# EAGLE library part LPC1343_QFN (library microbuilder)
LPC1343 72 MHz 32-bit ARM Cortex-M3 based microcontroller featuring a high level of integration and low power consumption. 32 kB Flash, 8 kB SRAM, USB Device MarcVl - Datasheet available on www.nxp.com
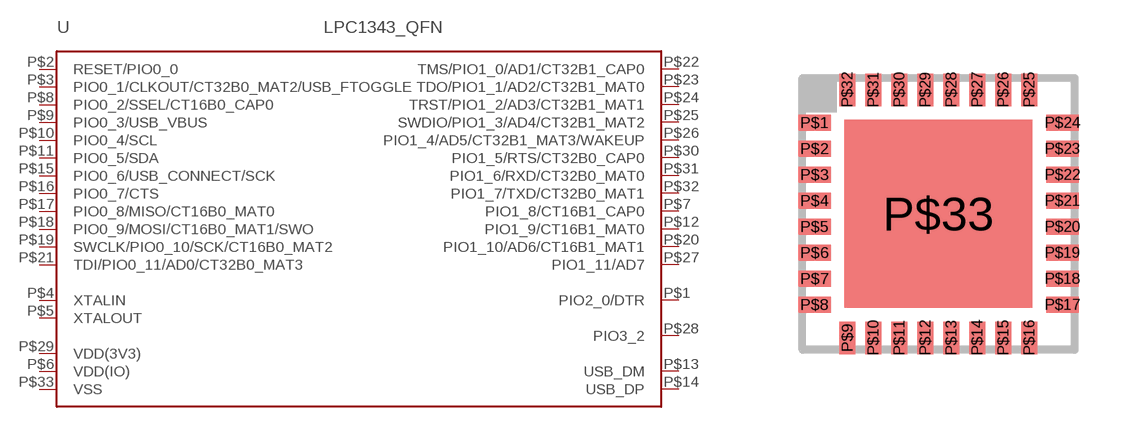
[diagram p30: symbol with the pads of HVQFN33-7X7; footprint HVQFN33-7X7]

Designator prefix U

## LPC1343_QFN  [HVQFN33-7X7]
P$1  PIO2_0/DTR
P$2  RESET/PIO0_0
P$3  PIO0_1/CLKOUT/CT32B0_MAT2/USB_FTOGGLE
P$4  XTALIN  in
P$5  XTALOUT  out
P$6  VDD(IO)  pwr
P$7  PIO1_8/CT16B1_CAP0
P$8  PIO0_2/SSEL/CT16B0_CAP0
P$9  PIO0_3/USB_VBUS
P$10  PIO0_4/SCL
P$11  PIO0_5/SDA
P$12  PIO1_9/CT16B1_MAT0
P$13  USB_DM
P$14  USB_DP
P$15  PIO0_6/USB_CONNECT/SCK
P$16  PIO0_7/CTS
P$17  PIO0_8/MISO/CT16B0_MAT0
P$18  PIO0_9/MOSI/CT16B0_MAT1/SWO
P$19  SWCLK/PIO0_10/SCK/CT16B0_MAT2
P$20  PIO1_10/AD6/CT16B1_MAT1
P$21  TDI/PIO0_11/AD0/CT32B0_MAT3
P$22  TMS/PIO1_0/AD1/CT32B1_CAP0
P$23  TDO/PIO1_1/AD2/CT32B1_MAT0
P$24  TRST/PIO1_2/AD3/CT32B1_MAT1
P$25  SWDIO/PIO1_3/AD4/CT32B1_MAT2
P$26  PIO1_4/AD5/CT32B1_MAT3/WAKEUP
P$27  PIO1_11/AD7
P$28  PIO3_2
P$29  VDD(3V3)  pwr
P$30  PIO1_5/RTS/CT32B0_CAP0
P$31  PIO1_6/RXD/CT32B0_MAT0
P$32  PIO1_7/TXD/CT32B0_MAT1
P$33  VSS  pwr

## Footprint HVQFN33-7X7 (pad centres in mm)
HVQFN33 Plastic thermal enhanced very thin quad flat package; 33 terminals; body 7x7x0.85 mm;
smd 0.813 x 0.406: P$1 -3.1,2.275; P$2 -3.1,1.625; P$3 -3.1,0.975; P$4 -3.1,0.325; P$5 -3.1,-0.325; P$6 -3.1,-0.975; P$7 -3.1,-1.625; P$8 -3.1,-2.275; P$17 3.1,-2.275; P$18 3.1,-1.625; P$19 3.1,-0.975; P$20 3.1,-0.325; P$21 3.1,0.325; P$22 3.1,0.975; P$23 3.1,1.625; P$24 3.1,2.275
smd 0.406 x 0.813: P$9 -2.275,-3.1; P$10 -1.625,-3.1; P$11 -0.975,-3.1; P$12 -0.325,-3.1; P$13 0.325,-3.1; P$14 0.975,-3.1; P$15 1.625,-3.1; P$16 2.275,-3.1; P$25 2.275,3.1; P$26 1.625,3.1; P$27 0.975,3.1; P$28 0.325,3.1; P$29 -0.325,3.1; P$30 -0.975,3.1; P$31 -1.625,3.1; P$32 -2.275,3.1
smd 2.54 x 1.27: P$33 0,0